# EAGLE library part EDGE_CONNECT (library Cynara-Connectors)
1MM MINI-CARD GUIDE.
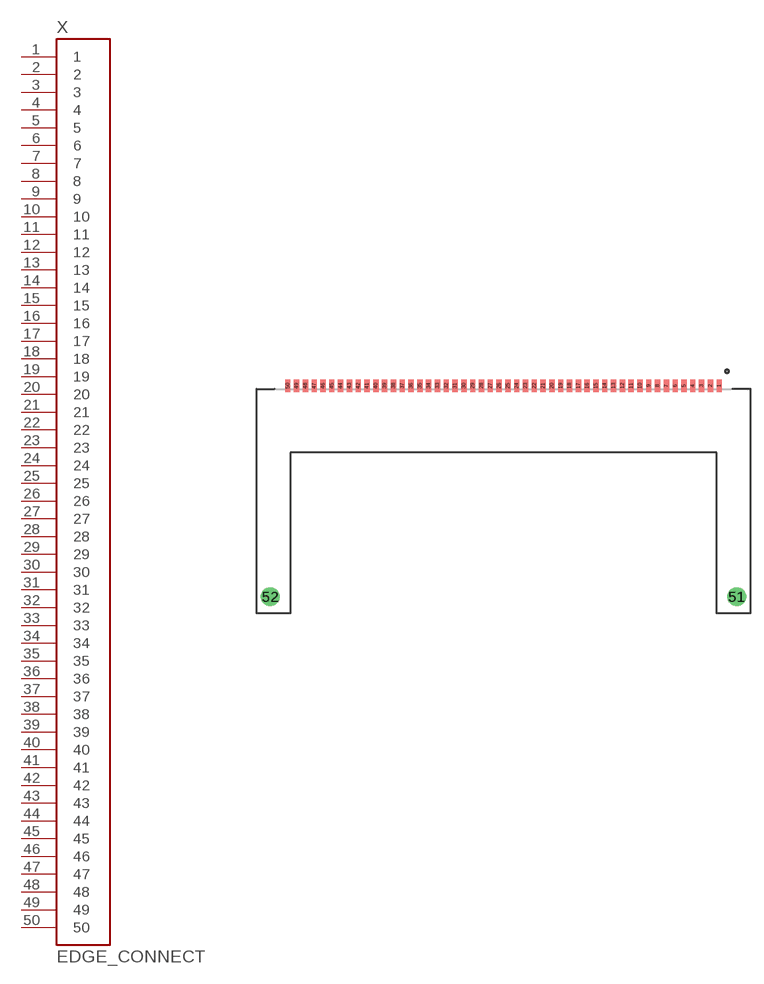
[diagram p5: symbol with the pads of MB1-150-01-XX-S-XX-SL; footprint MB1-150-01-XX-S-XX-SL]

Designator prefix X

## EDGE_CONNECT (MANUFACTURER: SAMTEC; MANUFACTURERPARTNO: MB1-150-01-F-S-02-SL; VALUE: EDGE 50p)  [MB1-150-01-XX-S-XX-SL]
1  1
2  2
3  3
4  4
5  5
6  6
7  7
8  8
9  9
10  10
11  11
12  12
13  13
14  14
15  15
16  16
17  17
18  18
19  19
20  20
21  21
22  22
23  23
24  24
25  25
26  26
27  27
28  28
29  29
30  30
31  31
32  32
33  33
34  34
35  35
36  36
37  37
38  38
39  39
40  40
41  41
42  42
43  43
44  44
45  45
46  46
47  47
48  48
49  49
50  50

## Footprint MB1-150-01-XX-S-XX-SL (pad centres in mm)
1MM MINI-CARD GUIDE.
smd 0.61 x 1.448: 1 24.5,23.95; 2 23.5,23.95; 3 22.5,23.95; 4 21.5,23.95; 5 20.5,23.95; 6 19.5,23.95; 7 18.5,23.95; 8 17.5,23.95; 9 16.5,23.95; 10 15.5,23.95; 11 14.5,23.95; 12 13.5,23.95; 13 12.5,23.95; 14 11.5,23.95; 15 10.5,23.95; 16 9.5,23.95; 17 8.5,23.95; 18 7.5,23.95; 19 6.5,23.95; 20 5.5,23.95; 21 4.5,23.95; 22 3.5,23.95; 23 2.5,23.95; 24 1.5,23.95; 25 0.5,23.95; 26 -0.5,23.95; 27 -1.5,23.95; 28 -2.5,23.95; 29 -3.5,23.95; 30 -4.5,23.95; 31 -5.5,23.95; 32 -6.5,23.95; 33 -7.5,23.95; 34 -8.5,23.95; 35 -9.5,23.95; 36 -10.5,23.95; 37 -11.5,23.95; 38 -12.5,23.95; 39 -13.5,23.95; 40 -14.5,23.95; 41 -15.5,23.95; 42 -16.5,23.95; 43 -17.5,23.95; 44 -18.5,23.95; 45 -19.5,23.95; 46 -20.5,23.95; 47 -21.5,23.95; 48 -22.5,23.95; 49 -23.5,23.95; 50 -24.5,23.95
drill 1.422 pad 2.032: 51 26.491,0; 52 -26.491,0